# Altium integrated library SRD-05VDC-SL-C.IntLib: 1 symbol
Pins are listed as number, name and electrical type; pins without a type are passive.

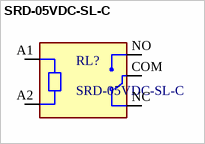
[diagram p0: symbol SRD-05VDC-SL-C]

## SRD-05VDC-SL-C
designator RL?
footprint SRD-05VDC-SL-C
pins: A1, A2, COM, NC, NO